# EAGLE library part LTC2620 (library IC)
Linear Tech LTC2620 12 bit Rail to Rail DAC in a 16 lead SSOP
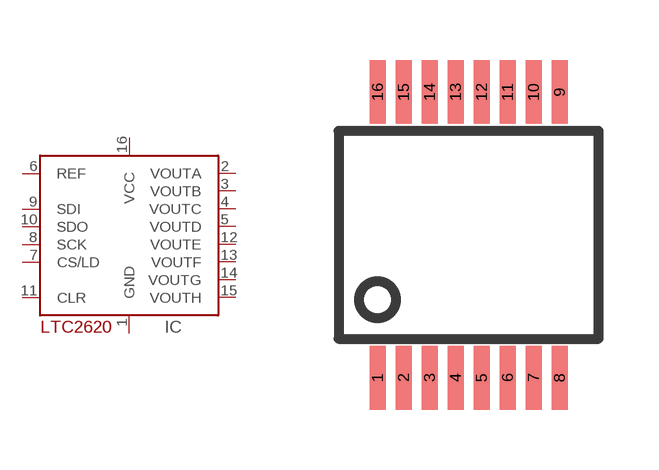
[diagram p147: symbol with the pads of SSOP16; footprint SSOP16]

Designator prefix IC

## LTC2620  [SSOP16]
1  GND
2  VOUTA
3  VOUTB
4  VOUTC
5  VOUTD
6  REF
7  CS/LD
8  SCK
9  SDI
10  SDO
11  CLR
12  VOUTE
13  VOUTF
14  VOUTG
15  VOUTH
16  VCC

## Footprint SSOP16 (pad centres in mm)
smd 0.4 x 1.6: 1 -2.275,-3.575; 2 -1.625,-3.575; 3 -0.975,-3.575; 4 -0.325,-3.575; 5 0.325,-3.575; 6 0.975,-3.575; 7 1.625,-3.575; 8 2.275,-3.575; 9 2.275,3.575; 10 1.625,3.575; 11 0.975,3.575; 12 0.325,3.575; 13 -0.325,3.575; 14 -0.975,3.575; 15 -1.625,3.575; 16 -2.275,3.575